# Altium schematic symbol library INA219AIDCNR.SchLib: 1 symbol
Pins are listed as number, name and electrical type; pins without a type are passive.

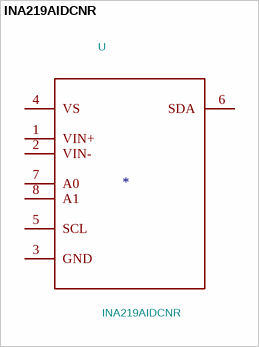
[diagram p0: symbol INA219AIDCNR]

## INA219AIDCNR
designator U  value INA219AIDCNR
Parameter_4: 26-V, Bi-Directional, Zero-Drift, High-Side, I2C Out Current/Power Monitor 8-SOT-23 -40 to 125; Parameter_5: Texas Instruments; Parameter_6: SOT-23 Texas Instruments; Parameter_7: None; Footprint: SOT65P280X145-8N; Supplier: Unavailable; Parameter_8: INA219AIDCNR
footprint SOT65P280X145-8N
pins: 1 VIN+, 2 VIN-, 3 GND, 4 VS, 5 SCL, 6 SDA, 7 A0, 8 A1